# EAGLE library part 615008140421 (library Wurth_Connectors_WR-MJ)
WR-MJ Modular Jack Vertical Shielded 8P8C Rear Post KIND PROPERTIES: Quality Class:500 Mating cycles MATERIAL PROPERTIES: Insulator Material :PBT Insulator Flammability Rating UL94 V-0 Insulator Color Black Contact Material Copper Alloy Contact Plating Selective Gold Contact Type Stamped Shielding Material:Bronze Shielding Plating: Nickel GENERAL PROPERTIES: Operating Temperature -40 °C up to +85 °C Compliance : RoHS ELECTRICAL PROPERTIES: Rated Current :1.5 A Working Voltage:120 V (AC) Withstanding Voltage 1000 V (AC) Contact Resistance 20 mΩ Insulation Resistance 500 MΩ PACKAGING PROPERTIES: Packaging:Tray <https://www.we-online.com/catalog/media/o33128v209%20Family_WR-MJ_615008140421.jpg> Details see: https://www.we-online.com/catalog/en/MJ_VERTICAL_SHIELDED_8P8C_REAR_POST/ Updated by Yingchun Shan,2020-01-07 2020(C) Würth Elektronik
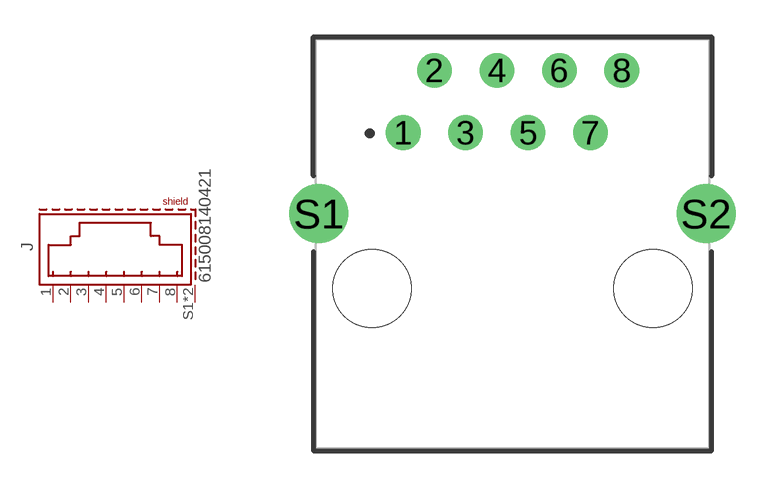
[diagram p27: symbol with the pads of 615008140421; footprint 615008140421]

Designator prefix J

## 615008140421 (DATASHEET-URL: https://www.we-online.com/redexpert/spec/615008140421?ae; MOUNT: THT; PART-NUMBER: 615008140421; TYPE: Vertical; VALUE: 615008140421; XPXC: 8P8C)  [615008140421]
1  8  pas
2  7  pas
3  6  pas
4  5  pas
5  4  pas
6  3  pas
7  2  pas
8  1  pas
S1  SHIELD  pas
S2  SHIELD  pas

## Footprint 615008140421 (pad centres in mm)
WR-MJ Vertical Shielded 8P8C Rear Post Modular Jack, 8 pins
drill 0.9: 1 -4.445,4.524; 2 -3.175,7.064; 3 -1.905,4.524; 4 -0.635,7.064; 5 0.635,4.524; 6 1.905,7.064; 7 3.175,4.524; 8 4.445,7.064
drill 1.6: S1 -7.875,1.224; S2 7.875,1.224
hole 3.17 at -5.715,-1.826
hole 3.17 at 5.715,-1.826